# Altium footprint library Speakers.PcbLib: 1 footprints
Each footprint in its own frame and in the unit in brackets; x right, y up, seen from the top. Pads: shape width x height; smd on the part's side, far side on the other; paste and mask are expansions set on the pad; w line width, h text height; cw(c..) or ccw(c..) is an arc to the next point about the centre after c.
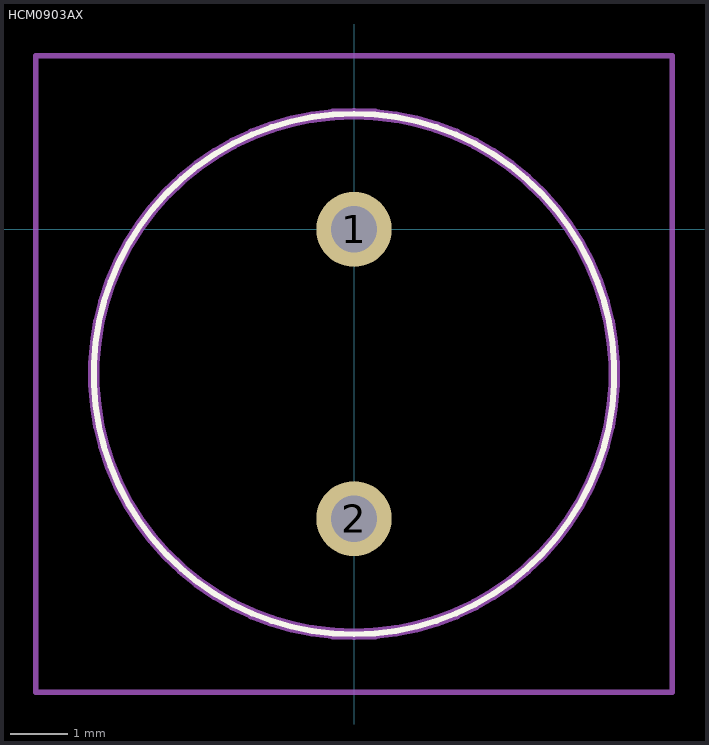
[diagram p0: the footprint, top view; thin cyan lines are the x and y axes]

## HCM0903AX [mm]
pads (2):
  round 1.3 hole 0.8: 1(0,0) 2(0,-5)
Top Overlay:
  lines w0.1: 0,-7 ccw(c0,-2.5) 0,2 ccw(c0,-2.5) 0,-7
Mechanical 13:
  lines w0.2: 0,-7 ccw(c0,-2.5) 0,2 ccw(c0,-2.5) 0,-7
Mechanical 15:
  lines w0.1: -5.5,-8 5.5,-8 5.5,3 -5.5,3 -5.5,-8
3D body "HCM0903AX.stp": height 6.1, standoff -5, extent -4.5,-7 4.5,2